# EAGLE library part ABRACON-LAN_MAGNETICS-ALANL100X1-EF62DT (library Module_Inductors)
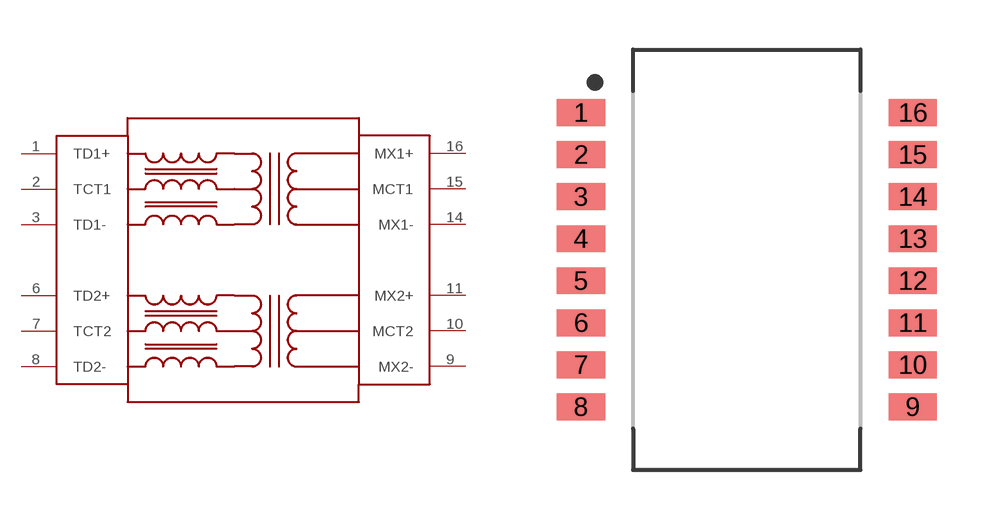
[diagram p1: symbol with the pads of ABRACON-LAN_MAGNETICS-ALANL100X1-EF62DT; footprint ABRACON-LAN_MAGNETICS-ALANL100X1-EF62DT]

Designator prefix L

## ABRACON-LAN_MAGNETICS-ALANL100X1-EF62DT  [ABRACON-LAN_MAGNETICS-ALANL100X1-EF62DT]
1  TD1+
2  TCT1
3  TD1-
6  TD2+
7  TCT2
8  TD2-
9  MX2-
10  MCT2
11  MX2+
14  MX1-
15  MCT1
16  MX1+

## Footprint ABRACON-LAN_MAGNETICS-ALANL100X1-EF62DT (pad centres in mm)
16-SOIC, 1.27 mm pitch, 10.67 mm span, 12.70 X 6.86 X 1.98 mm body 16-pin SOIC package with 1.27 mm pitch, 10.67 mm span with body size 12.70 X 6.86 X 1.98 mm
smd 1.462 x 0.812: 1 -5.01,4.445; 2 -5.01,3.175; 3 -5.01,1.905; 4 -5.01,0.635; 5 -5.01,-0.635; 6 -5.01,-1.905; 7 -5.01,-3.175; 8 -5.01,-4.445; 9 5.01,-4.445; 10 5.01,-3.175; 11 5.01,-1.905; 12 5.01,-0.635; 13 5.01,0.635; 14 5.01,1.905; 15 5.01,3.175; 16 5.01,4.445